# EAGLE library part LASTTRENNSCHALTER_4-POL (library e-schalter)
Lasttrennschalter, 4-pol. mit Neutralleiter
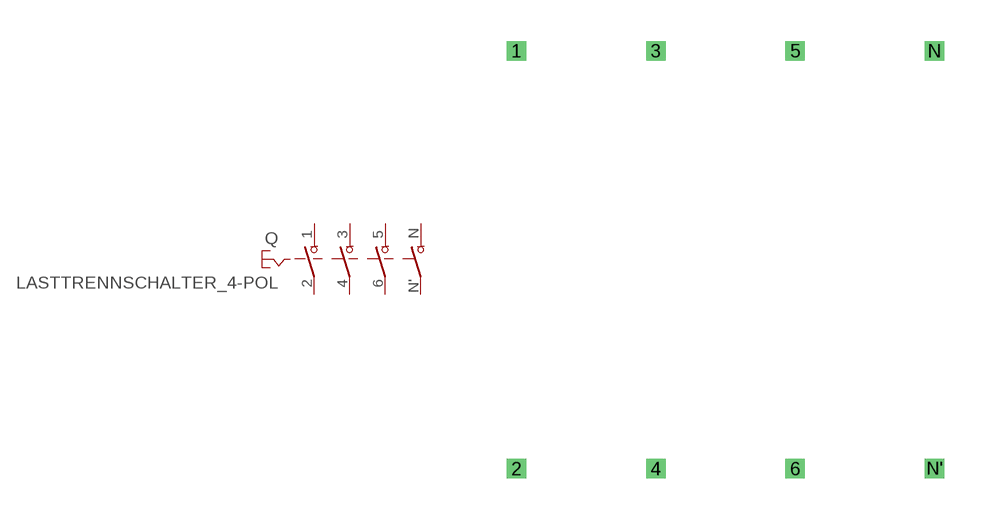
[diagram p12: symbol with the pads of LASTTRENNSCHALTER_4-POL; footprint LASTTRENNSCHALTER_4-POL]

Designator prefix Q

## LASTTRENNSCHALTER_4-POL  [LASTTRENNSCHALTER_4-POL]
1  1  in
2  2  in
3  3  in
4  4  in
5  5  in
6  6  in
N  7  in
N'  8  in

## Footprint LASTTRENNSCHALTER_4-POL (pad centres in mm)
Dummy
drill 0.2 pad 0.6 square: 1 0,7.62; 2 0,-7.62; 3 5.08,7.62; 4 5.08,-7.62; 5 10.16,7.62; 6 10.16,-7.62; N 15.24,7.62; N' 15.24,-7.62